# EAGLE library part MOA20UB019GJ (library taki-library)
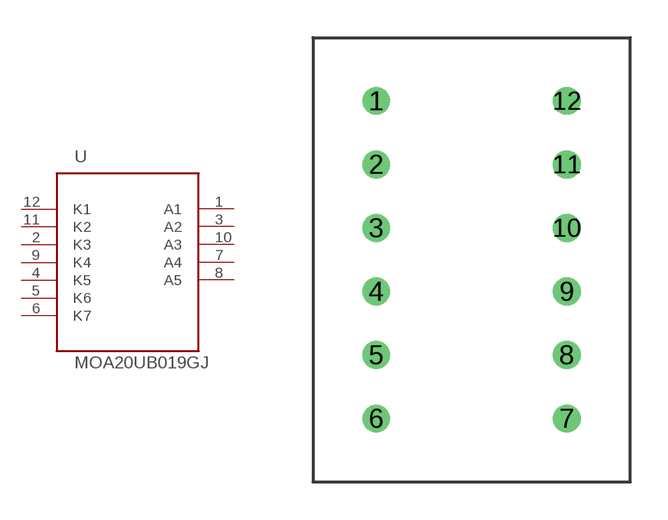
[diagram p16: symbol with the pads of MOA20UB019GJ; footprint MOA20UB019GJ]

Designator prefix -

## MOA20UB019GJ  [MOA20UB019GJ]
1  A1
2  K3
3  A2
4  K5
5  K6
6  K7
7  A4
8  A5
9  K4
10  A3
11  K2
12  K1

## Footprint MOA20UB019GJ (pad centres in mm)
drill 0.6: 1 -3.81,-2.54; 2 -3.81,-5.08; 3 -3.81,-7.62; 4 -3.81,-10.16; 5 -3.81,-12.7; 6 -3.81,-15.24; 7 3.81,-15.24; 8 3.81,-12.7; 9 3.81,-10.16; 10 3.81,-7.62; 11 3.81,-5.08; 12 3.81,-2.54